# Altium footprint library MK22FN128VDC10.PcbLib: 1 footprints
Each footprint in its own frame and in the unit in brackets; x right, y up, seen from the top. Pads: shape width x height; smd on the part's side, far side on the other; paste and mask are expansions set on the pad; w line width, h text height; cw(c..) or ccw(c..) is an arc to the next point about the centre after c.
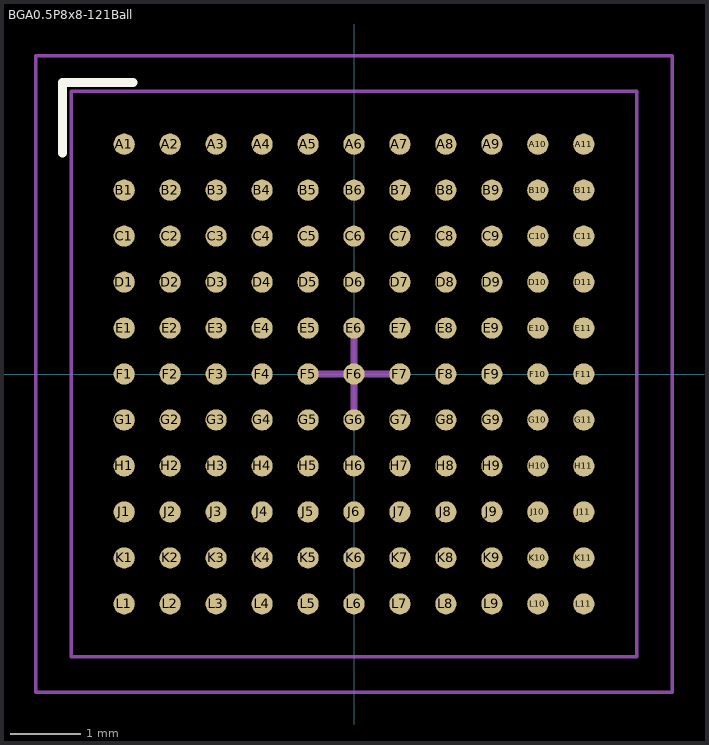
[diagram p0: the footprint, top view; thin cyan lines are the x and y axes]

## BGA0.5P8x8-121Ball [mm] "BGA 121Pin, 0.5mm pitch, 8mm x 8mm x 0.75mm, Medium Density"
height 0.75
pads (121):
  round 0.3 smd mask+0.05: A1(-3.25,3.25) A2(-2.6,3.25) A3(-1.95,3.25) A4(-1.3,3.25) A5(-0.65,3.25) A6(0,3.25) A7(0.65,3.25) A8(1.3,3.25) A9(1.95,3.25) A10(2.6,3.25) A11(3.25,3.25) B1(-3.25,2.6) B2(-2.6,2.6) B3(-1.95,2.6) B4(-1.3,2.6) B5(-0.65,2.6) B6(0,2.6) B7(0.65,2.6) B8(1.3,2.6) B9(1.95,2.6) B10(2.6,2.6) B11(3.25,2.6) C1(-3.25,1.95) C2(-2.6,1.95) C3(-1.95,1.95) C4(-1.3,1.95) C5(-0.65,1.95) C6(0,1.95) C7(0.65,1.95) C8(1.3,1.95) C9(1.95,1.95) C10(2.6,1.95) C11(3.25,1.95) D1(-3.25,1.3) D2(-2.6,1.3) D3(-1.95,1.3) D4(-1.3,1.3) D5(-0.65,1.3) D6(0,1.3) D7(0.65,1.3) D8(1.3,1.3) D9(1.95,1.3) D10(2.6,1.3) D11(3.25,1.3) E1(-3.25,0.65) E2(-2.6,0.65) E3(-1.95,0.65) E4(-1.3,0.65) E5(-0.65,0.65) E6(0,0.65) E7(0.65,0.65) E8(1.3,0.65) E9(1.95,0.65) E10(2.6,0.65) E11(3.25,0.65) F1(-3.25,0) F2(-2.6,0) F3(-1.95,0) F4(-1.3,0) F5(-0.65,0) F6(0,0) F7(0.65,0) F8(1.3,0) F9(1.95,0) F10(2.6,0) F11(3.25,0) G1(-3.25,-0.65) G2(-2.6,-0.65) G3(-1.95,-0.65) G4(-1.3,-0.65) G5(-0.65,-0.65) G6(0,-0.65) G7(0.65,-0.65) G8(1.3,-0.65) G9(1.95,-0.65) G10(2.6,-0.65) G11(3.25,-0.65) H1(-3.25,-1.301) H2(-2.6,-1.301) H3(-1.95,-1.301) H4(-1.3,-1.301) H5(-0.65,-1.301) H6(0,-1.301) H7(0.65,-1.301) H8(1.3,-1.301) H9(1.95,-1.301) H10(2.6,-1.301) H11(3.25,-1.301) J1(-3.25,-1.951) J2(-2.6,-1.951) J3(-1.95,-1.951) J4(-1.3,-1.951) J5(-0.65,-1.951) J6(0,-1.951) J7(0.65,-1.951) J8(1.3,-1.951) J9(1.95,-1.951) J10(2.6,-1.951) J11(3.25,-1.951) K1(-3.25,-2.601) K2(-2.6,-2.601) K3(-1.95,-2.601) K4(-1.3,-2.601) K5(-0.65,-2.601) K6(0,-2.601) K7(0.65,-2.601) K8(1.3,-2.601) K9(1.95,-2.601) K10(2.6,-2.601) K11(3.25,-2.601) L1(-3.25,-3.251) L2(-2.6,-3.251) L3(-1.95,-3.251) L4(-1.3,-3.251) L5(-0.65,-3.251) L6(0,-3.251) L7(0.65,-3.251) L8(1.3,-3.251) L9(1.95,-3.251) L10(2.6,-3.251) L11(3.25,-3.251)
Top Overlay:
  lines w0.127: -4.125,3.125 -4.125,4.125 -3.125,4.125
Mechanical 11:
  text ".Designator" at -1.95,-0.5 h0.5
Mechanical 13:
  circle w0.05: c-3.25,3.25 r0.1
  lines w0.05: -4,-4 -4,4 4,4 4,-4 -4,-4
Mechanical 15:
  lines w0.05: -4.5,-4.5 4.5,-4.5 4.5,4.5 -4.5,4.5 -4.5,-4.5
  lines w0.1: -0.5,0 0.5,0 ; 0,-0.5 0,0.5
3D body: height 0.51, standoff 0.5, extent -4,2.5 -2.5,4
3D body: height 0.5, standoff 0.25, extent -4,-4 4,4
3D body: height 0.28, standoff -0.02, extent -3.395,3.102 -3.105,3.398
3D body: height 0.28, standoff -0.02, extent -2.745,3.102 -2.455,3.398
3D body: height 0.28, standoff -0.02, extent -2.095,3.102 -1.805,3.398
3D body: height 0.28, standoff -0.02, extent -1.445,3.102 -1.155,3.398
3D body: height 0.28, standoff -0.02, extent -0.795,3.102 -0.505,3.398
3D body: height 0.28, standoff -0.02, extent -0.145,3.102 0.145,3.398
3D body: height 0.28, standoff -0.02, extent 0.505,3.102 0.795,3.398
3D body: height 0.28, standoff -0.02, extent 1.155,3.102 1.445,3.398
3D body: height 0.28, standoff -0.02, extent 1.805,3.102 2.095,3.398
3D body: height 0.28, standoff -0.02, extent 2.455,3.102 2.745,3.398
3D body: height 0.28, standoff -0.02, extent 3.105,3.102 3.395,3.398
3D body: height 0.28, standoff -0.02, extent -3.395,2.452 -3.105,2.748
3D body: height 0.28, standoff -0.02, extent -2.745,2.452 -2.455,2.748
3D body: height 0.28, standoff -0.02, extent -2.095,2.452 -1.805,2.748
3D body: height 0.28, standoff -0.02, extent -1.445,2.452 -1.155,2.748
3D body: height 0.28, standoff -0.02, extent -0.795,2.452 -0.505,2.748
3D body: height 0.28, standoff -0.02, extent -0.145,2.452 0.145,2.748
3D body: height 0.28, standoff -0.02, extent 0.505,2.452 0.795,2.748
3D body: height 0.28, standoff -0.02, extent 1.155,2.452 1.445,2.748
3D body: height 0.28, standoff -0.02, extent 1.805,2.452 2.095,2.748
3D body: height 0.28, standoff -0.02, extent 2.455,2.452 2.745,2.748
3D body: height 0.28, standoff -0.02, extent 3.105,2.452 3.395,2.748
3D body: height 0.28, standoff -0.02, extent -3.395,1.802 -3.105,2.098
3D body: height 0.28, standoff -0.02, extent -2.745,1.802 -2.455,2.098
3D body: height 0.28, standoff -0.02, extent -2.095,1.802 -1.805,2.098
3D body: height 0.28, standoff -0.02, extent -1.445,1.802 -1.155,2.098
3D body: height 0.28, standoff -0.02, extent -0.795,1.802 -0.505,2.098
3D body: height 0.28, standoff -0.02, extent -0.145,1.802 0.145,2.098
3D body: height 0.28, standoff -0.02, extent 0.505,1.802 0.795,2.098
3D body: height 0.28, standoff -0.02, extent 1.155,1.802 1.445,2.098
3D body: height 0.28, standoff -0.02, extent 1.805,1.802 2.095,2.098
3D body: height 0.28, standoff -0.02, extent 2.455,1.802 2.745,2.098
3D body: height 0.28, standoff -0.02, extent 3.105,1.802 3.395,2.098
3D body: height 0.28, standoff -0.02, extent -3.395,1.152 -3.105,1.448
3D body: height 0.28, standoff -0.02, extent -2.745,1.152 -2.455,1.448
3D body: height 0.28, standoff -0.02, extent -2.095,1.152 -1.805,1.448
3D body: height 0.28, standoff -0.02, extent -1.445,1.152 -1.155,1.448
3D body: height 0.28, standoff -0.02, extent -0.795,1.152 -0.505,1.448
3D body: height 0.28, standoff -0.02, extent -0.145,1.152 0.145,1.448
3D body: height 0.28, standoff -0.02, extent 0.505,1.152 0.795,1.448
3D body: height 0.28, standoff -0.02, extent 1.155,1.152 1.445,1.448
3D body: height 0.28, standoff -0.02, extent 1.805,1.152 2.095,1.448
3D body: height 0.28, standoff -0.02, extent 2.455,1.152 2.745,1.448
3D body: height 0.28, standoff -0.02, extent 3.105,1.152 3.395,1.448
3D body: height 0.28, standoff -0.02, extent -3.395,0.502 -3.105,0.798
3D body: height 0.28, standoff -0.02, extent -2.745,0.502 -2.455,0.798
3D body: height 0.28, standoff -0.02, extent -2.095,0.502 -1.805,0.798
3D body: height 0.28, standoff -0.02, extent -1.445,0.502 -1.155,0.798
3D body: height 0.28, standoff -0.02, extent -0.795,0.502 -0.505,0.798
3D body: height 0.28, standoff -0.02, extent -0.145,0.502 0.145,0.798
3D body: height 0.28, standoff -0.02, extent 0.505,0.502 0.795,0.798
3D body: height 0.28, standoff -0.02, extent 1.155,0.502 1.445,0.798
3D body: height 0.28, standoff -0.02, extent 1.805,0.502 2.095,0.798
3D body: height 0.28, standoff -0.02, extent 2.455,0.502 2.745,0.798
3D body: height 0.28, standoff -0.02, extent 3.105,0.502 3.395,0.798
3D body: height 0.28, standoff -0.02, extent -3.395,-0.148 -3.105,0.148
3D body: height 0.28, standoff -0.02, extent -2.745,-0.148 -2.455,0.148
3D body: height 0.28, standoff -0.02, extent -2.095,-0.148 -1.805,0.148
3D body: height 0.28, standoff -0.02, extent -1.445,-0.148 -1.155,0.148
3D body: height 0.28, standoff -0.02, extent -0.795,-0.148 -0.505,0.148
3D body: height 0.28, standoff -0.02, extent -0.145,-0.148 0.145,0.148
3D body: height 0.28, standoff -0.02, extent 0.505,-0.148 0.795,0.148
3D body: height 0.28, standoff -0.02, extent 1.155,-0.148 1.445,0.148
3D body: height 0.28, standoff -0.02, extent 1.805,-0.148 2.095,0.148
3D body: height 0.28, standoff -0.02, extent 2.455,-0.148 2.745,0.148
3D body: height 0.28, standoff -0.02, extent 3.105,-0.148 3.395,0.148
3D body: height 0.28, standoff -0.02, extent -3.402,-0.799 -3.111,-0.503
3D body: height 0.28, standoff -0.02, extent -2.752,-0.799 -2.461,-0.503
3D body: height 0.28, standoff -0.02, extent -2.102,-0.799 -1.811,-0.503
3D body: height 0.28, standoff -0.02, extent -1.452,-0.799 -1.161,-0.503
3D body: height 0.28, standoff -0.02, extent -0.802,-0.799 -0.511,-0.503
3D body: height 0.28, standoff -0.02, extent -0.152,-0.799 0.139,-0.503
3D body: height 0.28, standoff -0.02, extent 0.498,-0.799 0.789,-0.503
3D body: height 0.28, standoff -0.02, extent 1.148,-0.799 1.439,-0.503
3D body: height 0.28, standoff -0.02, extent 1.798,-0.799 2.089,-0.503
3D body: height 0.28, standoff -0.02, extent 2.448,-0.799 2.739,-0.503
3D body: height 0.28, standoff -0.02, extent 3.098,-0.799 3.389,-0.503
3D body: height 0.28, standoff -0.02, extent -3.402,-1.449 -3.111,-1.153
3D body: height 0.28, standoff -0.02, extent -2.752,-1.449 -2.461,-1.153
3D body: height 0.28, standoff -0.02, extent -2.102,-1.449 -1.811,-1.153
3D body: height 0.28, standoff -0.02, extent -1.452,-1.449 -1.161,-1.153
3D body: height 0.28, standoff -0.02, extent -0.802,-1.449 -0.511,-1.153
3D body: height 0.28, standoff -0.02, extent -0.152,-1.449 0.139,-1.153
3D body: height 0.28, standoff -0.02, extent 0.498,-1.449 0.789,-1.153
3D body: height 0.28, standoff -0.02, extent 1.148,-1.449 1.439,-1.153
3D body: height 0.28, standoff -0.02, extent 1.798,-1.449 2.089,-1.153
3D body: height 0.28, standoff -0.02, extent 2.448,-1.449 2.739,-1.153
3D body: height 0.28, standoff -0.02, extent 3.098,-1.449 3.389,-1.153
3D body: height 0.28, standoff -0.02, extent -3.402,-2.099 -3.111,-1.803
3D body: height 0.28, standoff -0.02, extent -2.752,-2.099 -2.461,-1.803
3D body: height 0.28, standoff -0.02, extent -2.102,-2.099 -1.811,-1.803
3D body: height 0.28, standoff -0.02, extent -1.452,-2.099 -1.161,-1.803
3D body: height 0.28, standoff -0.02, extent -0.802,-2.099 -0.511,-1.803
3D body: height 0.28, standoff -0.02, extent -0.152,-2.099 0.139,-1.803
3D body: height 0.28, standoff -0.02, extent 0.498,-2.099 0.789,-1.803
3D body: height 0.28, standoff -0.02, extent 1.148,-2.099 1.439,-1.803
3D body: height 0.28, standoff -0.02, extent 1.798,-2.099 2.089,-1.803
3D body: height 0.28, standoff -0.02, extent 2.448,-2.099 2.739,-1.803
3D body: height 0.28, standoff -0.02, extent 3.098,-2.099 3.389,-1.803
3D body: height 0.28, standoff -0.02, extent -3.402,-2.749 -3.111,-2.453
3D body: height 0.28, standoff -0.02, extent -2.752,-2.749 -2.461,-2.453
3D body: height 0.28, standoff -0.02, extent -2.102,-2.749 -1.811,-2.453
3D body: height 0.28, standoff -0.02, extent -1.452,-2.749 -1.161,-2.453
3D body: height 0.28, standoff -0.02, extent -0.802,-2.749 -0.511,-2.453
3D body: height 0.28, standoff -0.02, extent -0.152,-2.749 0.139,-2.453
3D body: height 0.28, standoff -0.02, extent 0.498,-2.749 0.789,-2.453
3D body: height 0.28, standoff -0.02, extent 1.148,-2.749 1.439,-2.453
3D body: height 0.28, standoff -0.02, extent 1.798,-2.749 2.089,-2.453
3D body: height 0.28, standoff -0.02, extent 2.448,-2.749 2.739,-2.453
3D body: height 0.28, standoff -0.02, extent 3.098,-2.749 3.389,-2.453
3D body: height 0.28, standoff -0.02, extent -3.402,-3.399 -3.111,-3.103
3D body: height 0.28, standoff -0.02, extent -2.752,-3.399 -2.461,-3.103
3D body: height 0.28, standoff -0.02, extent -2.102,-3.399 -1.811,-3.103
3D body: height 0.28, standoff -0.02, extent -1.452,-3.399 -1.161,-3.103
3D body: height 0.28, standoff -0.02, extent -0.802,-3.399 -0.511,-3.103
3D body: height 0.28, standoff -0.02, extent -0.152,-3.399 0.139,-3.103
3D body: height 0.28, standoff -0.02, extent 0.498,-3.399 0.789,-3.103
3D body: height 0.28, standoff -0.02, extent 1.148,-3.399 1.439,-3.103
3D body: height 0.28, standoff -0.02, extent 1.798,-3.399 2.089,-3.103
3D body: height 0.28, standoff -0.02, extent 2.448,-3.399 2.739,-3.103
3D body: height 0.28, standoff -0.02, extent 3.098,-3.399 3.389,-3.103